# Altium schematic symbol library CONN-STD-2P_puissance.SchLib: 1 symbol
Pins are listed as number, name and electrical type; pins without a type are passive.

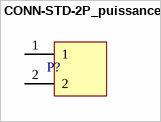
[diagram p0: symbol CONN-STD-2P_puissance]

## CONN-STD-2P_puissance
designator P?  (value not drawn)
pins: 1, 2